# Altium footprint library PcbLib1.PcbLib: 17 footprints (part 2 of 2)
Each footprint in its own frame and in the unit in brackets; x right, y up, seen from the top. Pads: shape width x height; smd on the part's side, far side on the other; paste and mask are expansions set on the pad; w line width, h text height; cw(c..) or ccw(c..) is an arc to the next point about the centre after c.
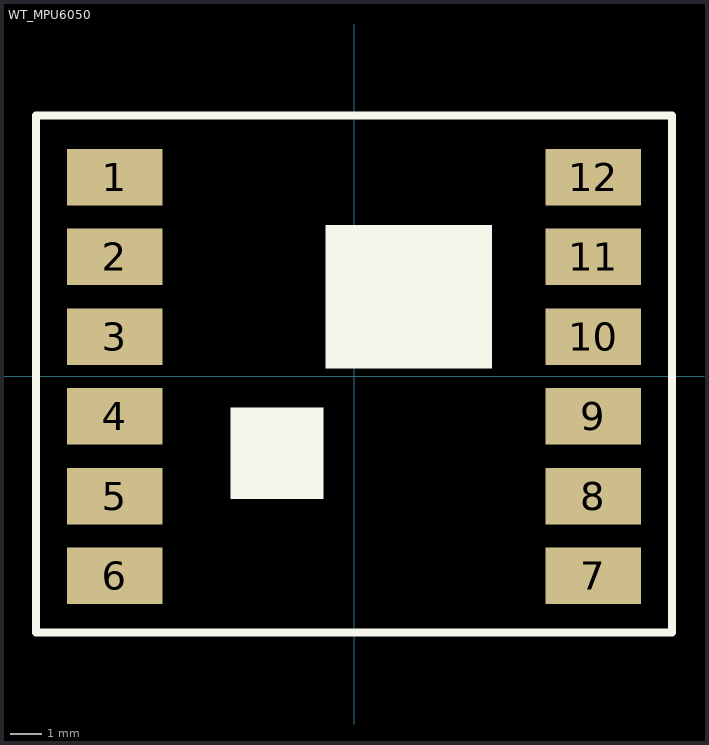
[diagram p1: the footprint, top view; thin cyan lines are the x and y axes]

## WT_MPU6050 [mm]
pads (12):
  rect 3.048x1.8 smd: 1(-7.62,6.35) 2(-7.62,3.81) 3(-7.62,1.27) 4(-7.62,-1.27) 5(-7.62,-3.81) 6(-7.62,-6.35) 7(7.62,-6.35) 8(7.62,-3.81) 9(7.62,-1.27) 10(7.62,1.27) 11(7.62,3.81) 12(7.62,6.35)
Top Overlay:
  rectangle: -3.937,-3.912 -0.965,-0.991
  rectangle: -0.914,0.254 4.394,4.826
  lines w0.254: -10.135,8.28 -10.135,-8.153 10.135,-8.153 10.135,8.306 -10.135,8.306
Top Designator:
  text ".Designator" at -7.517,-0.48 h1.52